# Altium footprint library esp.PcbLib: 1 footprints
Each footprint in its own frame and in the unit in brackets; x right, y up, seen from the top. Pads: shape width x height; smd on the part's side, far side on the other; paste and mask are expansions set on the pad; w line width, h text height; cw(c..) or ccw(c..) is an arc to the next point about the centre after c.
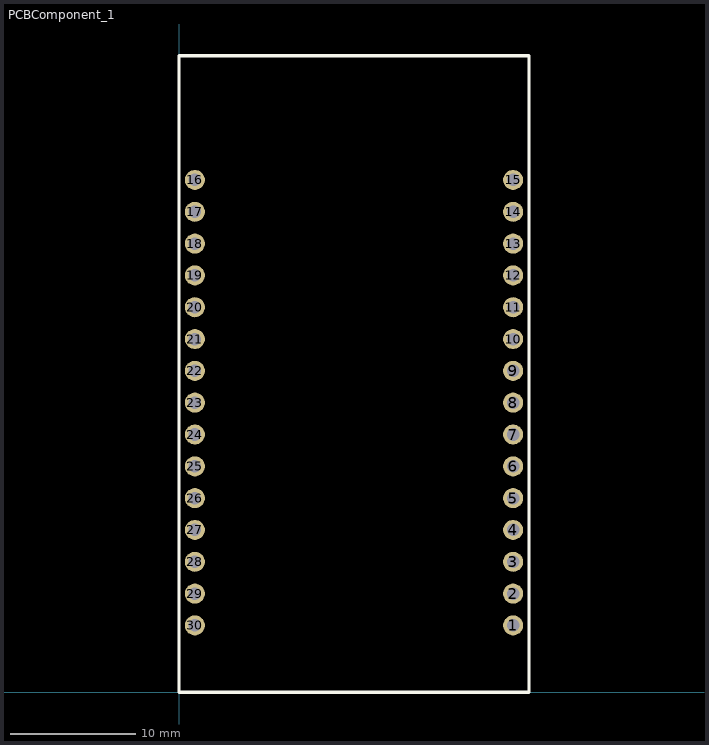
[diagram p0: the footprint, top view; thin cyan lines are the x and y axes]

## PCBComponent_1 [mm]
pads (30):
  round 1.6 hole 1: 1(26.67,5.33) 2(26.67,7.87) 3(26.67,10.41) 4(26.67,12.95) 5(26.67,15.49) 6(26.67,18.03) 7(26.67,20.57) 8(26.67,23.11) 9(26.67,25.65) 10(26.67,28.19) 11(26.67,30.73) 12(26.67,33.27) 13(26.67,35.81) 14(26.67,38.35) 15(26.67,40.89) 16(1.27,40.89) 17(1.27,38.35) 18(1.27,35.81) 19(1.27,33.27) 20(1.27,30.73) 21(1.27,28.19) 22(1.27,25.65) 23(1.27,23.11) 24(1.27,20.57) 25(1.27,18.03) 26(1.27,15.49) 27(1.27,12.95) 28(1.27,10.41) 29(1.27,7.87) 30(1.27,5.33)
Top Overlay:
  lines w0.254: 0,0 27.94,0 27.94,50.8 0,50.8 0,0
3D body "ESP-32_v1.STEP": height 6.81, standoff -5.59, extent -0.306,-0.192 28.194,50.738